# EAGLE library part LTC6752*?-3 (library LTC6752)
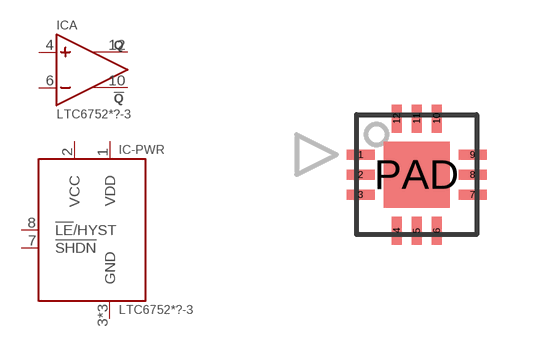
[diagram p2: symbol with the pads of QFN12-3X3-0.5; footprint QFN12-3X3-0.5]

Designator prefix IC; gates A=LTC6752-AMP-WITH-!Q -PWR=LTC6752-PWR-WITH-VDD-LEHYST-SHDN

## LTC6752HUD-3 (MARK: LGVK; MF: Texas Instruments; MPN: LTC6752HUD-3#TRPBF), LTC6752IUD-3 (MARK: LGVK; MF: Texas Instruments; MPN: LTC6752IUD-3#TRPBF)  [QFN12-3X3-0.5]
1  -PWR:VDD  in
2  -PWR:VCC  in
3  -PWR:GND  in
4  A:IN+  in
6  A:IN-  in
7  -PWR:!SHDN  in
8  -PWR:!LE!/HYST  in
9  -PWR:GND  in
10  A:!Q  in
12  A:Q  in
PAD  -PWR:GND  in

## Footprint QFN12-3X3-0.5 (pad centres in mm)
smd 0.7 x 0.25: 1 -1.4,0.5; 2 -1.4,0; 3 -1.4,-0.5; 7 1.4,-0.5; 8 1.4,0; 9 1.4,0.5
smd 0.25 x 0.7: 4 -0.5,-1.4; 5 0,-1.4; 6 0.5,-1.4; 10 0.5,1.4; 11 0,1.4; 12 -0.5,1.4
smd 1.65 x 1.65: PAD 0,0